# EAGLE library part AMC1602AR-B-Y6WFDY-SPI (library AMC1602AR-B-Y6WFDY-SPI)
Character Display Module Transflective 5 x 8 Dots STN - Super-Twisted Nematic LED - Yellow/Green SPI 80.00mm x 36.00mm x 14.00mm Source: Datasheet <https://www.orientdisplay.com/wp-content/uploads/2019/10/AMC1602AR-B-Y6WFDY-SPI-specsheet.pdf>
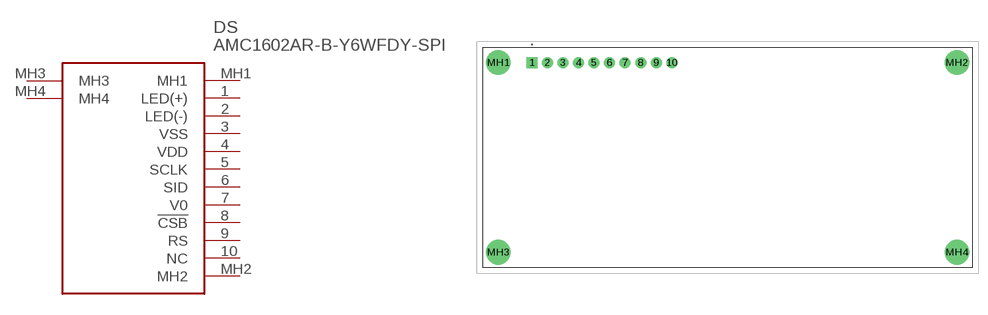
[diagram p0: symbol with the pads of AMC1602ARBY6WFDYSPI; footprint AMC1602ARBY6WFDYSPI]

Designator prefix DS

## AMC1602AR-B-Y6WFDY-SPI (Description: Character Display Module Transflective 5 x 8 Dots STN - Super-Twisted Nematic LED - Yellow/Green SPI 80.00mm x 36.00mm x 14.00mm; Height: 14mm; Manufacturer_Name: Orient Display; Manufacturer_Part_Number: AMC1602AR-B-Y6WFDY-SPI)  [AMC1602ARBY6WFDYSPI]
1  LED(+)
2  LED(-)
3  VSS
4  VDD
5  SCLK
6  SID
7  V0
8  !CSB
9  RS
10  NC  nc
MH1  MH1
MH2  MH2
MH3  MH3
MH4  MH4

## Footprint AMC1602ARBY6WFDYSPI (pad centres in mm)
80.0x36.0x14.0mm
drill 1.2 pad 1.8 square: 1 0,0
drill 1.2 pad 1.8: 2 2.54,0; 3 5.08,0; 4 7.62,0; 5 10.16,0; 6 12.7,0; 7 15.24,0; 8 17.78,0; 9 20.32,0; 10 22.86,0
drill 2.7 pad 4.05: MH1 -5.5,0; MH2 69.5,0; MH3 -5.5,-31; MH4 69.5,-31